# Altium footprint library TEST&JUMPER.PcbLib: 74 footprints (part 1 of 5)
Each footprint in its own frame and in the unit in brackets; x right, y up, seen from the top. Pads: shape width x height; smd on the part's side, far side on the other; paste and mask are expansions set on the pad; w line width, h text height; cw(c..) or ccw(c..) is an arc to the next point about the centre after c.
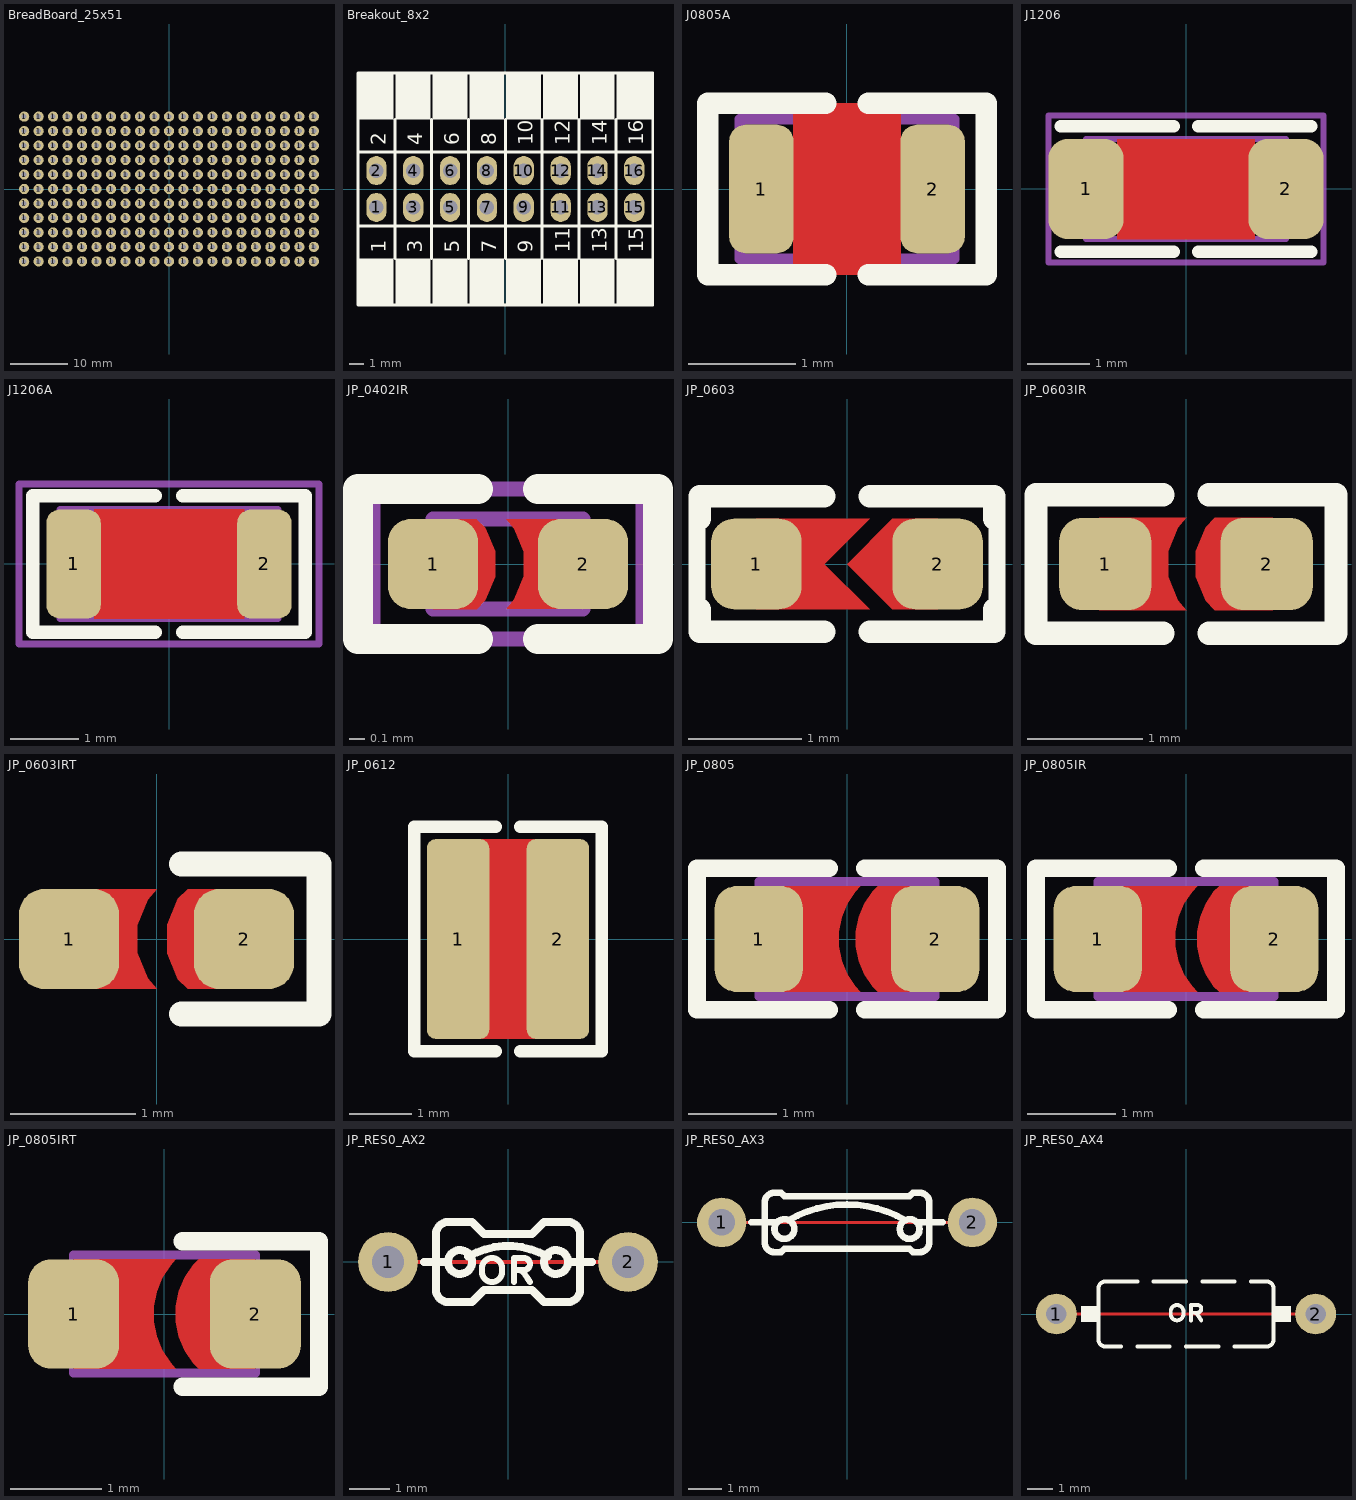
[diagram p0: the footprints below, top view; thin cyan lines are the x and y axes]

## BreadBoard_25x51 [mm] "Small 1\"x2\" breadboard section"
pads (231):
  round 1.8 hole 0.9: 1(-25.4,-12.7) 1(-25.4,-10.16) 1(-25.4,-7.62) 1(-25.4,-5.08) 1(-25.4,-2.54) 1(-25.4,0) 1(-25.4,2.54) 1(-25.4,5.08) 1(-25.4,7.62) 1(-25.4,10.16) 1(-25.4,12.7) 1(-22.86,-12.7) 1(-22.86,-10.16) 1(-22.86,-7.62) 1(-22.86,-5.08) 1(-22.86,-2.54) 1(-22.86,0) 1(-22.86,2.54) 1(-22.86,5.08) 1(-22.86,7.62) 1(-22.86,10.16) 1(-22.86,12.7) 1(-20.32,-12.7) 1(-20.32,-10.16) 1(-20.32,-7.62) 1(-20.32,-5.08) 1(-20.32,-2.54) 1(-20.32,0) 1(-20.32,2.54) 1(-20.32,5.08) 1(-20.32,7.62) 1(-20.32,10.16) 1(-20.32,12.7) 1(-17.78,-12.7) 1(-17.78,-10.16) 1(-17.78,-7.62) 1(-17.78,-5.08) 1(-17.78,-2.54) 1(-17.78,0) 1(-17.78,2.54) 1(-17.78,5.08) 1(-17.78,7.62) 1(-17.78,10.16) 1(-17.78,12.7) 1(-15.24,-12.7) 1(-15.24,-10.16) 1(-15.24,-7.62) 1(-15.24,-5.08) 1(-15.24,-2.54) 1(-15.24,0) 1(-15.24,2.54) 1(-15.24,5.08) 1(-15.24,7.62) 1(-15.24,10.16) 1(-15.24,12.7) 1(-12.7,-12.7) 1(-12.7,-10.16) 1(-12.7,-7.62) 1(-12.7,-5.08) 1(-12.7,-2.54) 1(-12.7,0) 1(-12.7,2.54) 1(-12.7,5.08) 1(-12.7,7.62) 1(-12.7,10.16) 1(-12.7,12.7) 1(-10.16,-12.7) 1(-10.16,-10.16) 1(-10.16,-7.62) 1(-10.16,-5.08) 1(-10.16,-2.54) 1(-10.16,0) 1(-10.16,2.54) 1(-10.16,5.08) 1(-10.16,7.62) 1(-10.16,10.16) 1(-10.16,12.7) 1(-7.62,-12.7) 1(-7.62,-10.16) 1(-7.62,-7.62) 1(-7.62,-5.08) 1(-7.62,-2.54) 1(-7.62,0) 1(-7.62,2.54) 1(-7.62,5.08) 1(-7.62,7.62) 1(-7.62,10.16) 1(-7.62,12.7) 1(-5.08,-12.7) 1(-5.08,-10.16) 1(-5.08,-7.62) 1(-5.08,-5.08) 1(-5.08,-2.54) 1(-5.08,0) 1(-5.08,2.54) 1(-5.08,5.08) 1(-5.08,7.62) 1(-5.08,10.16) 1(-5.08,12.7) 1(-2.54,-12.7) 1(-2.54,-10.16) 1(-2.54,-7.62) 1(-2.54,-5.08) 1(-2.54,-2.54) 1(-2.54,0) 1(-2.54,2.54) 1(-2.54,5.08) 1(-2.54,7.62) 1(-2.54,10.16) 1(-2.54,12.7) 1(0,-12.7) 1(0,-10.16) 1(0,-7.62) 1(0,-5.08) 1(0,-2.54) 1(0,0) 1(0,2.54) 1(0,5.08) 1(0,7.62) 1(0,10.16) 1(0,12.7) 1(2.54,-12.7) 1(2.54,-10.16) 1(2.54,-7.62) 1(2.54,-5.08) 1(2.54,-2.54) 1(2.54,0) 1(2.54,2.54) 1(2.54,5.08) 1(2.54,7.62) 1(2.54,10.16) 1(2.54,12.7) 1(5.08,-12.7) 1(5.08,-10.16) 1(5.08,-7.62) 1(5.08,-5.08) 1(5.08,-2.54) 1(5.08,0) 1(5.08,2.54) 1(5.08,5.08) 1(5.08,7.62) 1(5.08,10.16) 1(5.08,12.7) 1(7.62,-12.7) 1(7.62,-10.16) 1(7.62,-7.62) 1(7.62,-5.08) 1(7.62,-2.54) 1(7.62,0) 1(7.62,2.54) 1(7.62,5.08) 1(7.62,7.62) 1(7.62,10.16) 1(7.62,12.7) 1(10.16,-12.7) 1(10.16,-10.16) 1(10.16,-7.62) 1(10.16,-5.08) 1(10.16,-2.54) 1(10.16,0) 1(10.16,2.54) 1(10.16,5.08) 1(10.16,7.62) 1(10.16,10.16) 1(10.16,12.7) 1(12.7,-12.7) 1(12.7,-10.16) 1(12.7,-7.62) 1(12.7,-5.08) 1(12.7,-2.54) 1(12.7,0) 1(12.7,2.54) 1(12.7,5.08) 1(12.7,7.62) 1(12.7,10.16) 1(12.7,12.7) 1(15.24,-12.7) 1(15.24,-10.16) 1(15.24,-7.62) 1(15.24,-5.08) 1(15.24,-2.54) 1(15.24,0) 1(15.24,2.54) 1(15.24,5.08) 1(15.24,7.62) 1(15.24,10.16) 1(15.24,12.7) 1(17.78,-12.7) 1(17.78,-10.16) 1(17.78,-7.62) 1(17.78,-5.08) 1(17.78,-2.54) 1(17.78,0) 1(17.78,2.54) 1(17.78,5.08) 1(17.78,7.62) 1(17.78,10.16) 1(17.78,12.7) 1(20.32,-12.7) 1(20.32,-10.16) 1(20.32,-7.62) 1(20.32,-5.08) 1(20.32,-2.54) 1(20.32,0) 1(20.32,2.54) 1(20.32,5.08) 1(20.32,7.62) 1(20.32,10.16) 1(20.32,12.7) 1(22.86,-12.7) 1(22.86,-10.16) 1(22.86,-7.62) 1(22.86,-5.08) 1(22.86,-2.54) 1(22.86,0) 1(22.86,2.54) 1(22.86,5.08) 1(22.86,7.62) 1(22.86,10.16) 1(22.86,12.7) 1(25.4,-12.7) 1(25.4,-10.16) 1(25.4,-7.62) 1(25.4,-5.08) 1(25.4,-2.54) 1(25.4,0) 1(25.4,2.54) 1(25.4,5.08) 1(25.4,7.62) 1(25.4,10.16) 1(25.4,12.7)

## Breakout_8x2 [mm] "Small DAQ breakout for hookup to breadboard section"
pads (16):
  oval 1.4x2 hole 1: 1(-8.89,-1.27) 2(-8.89,1.27) 3(-6.35,-1.27) 4(-6.35,1.27) 5(-3.81,-1.27) 6(-3.81,1.27) 7(-1.27,-1.27) 8(-1.27,1.27) 9(1.27,-1.27) 10(1.27,1.27) 11(3.81,-1.27) 12(3.81,1.27) 13(6.35,-1.27) 14(6.35,1.27) 15(8.89,-1.27) 16(8.89,1.27)
Top Overlay:
  rectangle: -10.1,4.8 -7.7,8
  rectangle: -7.56,4.8 -5.16,8
  rectangle: -5.02,4.8 -2.62,8
  rectangle: -2.48,4.8 -0.08,8
  rectangle: 0.06,4.8 2.46,8
  rectangle: 2.6,4.8 5,8
  rectangle: 5.14,4.8 7.54,8
  rectangle: 7.68,4.8 10.08,8
  rectangle: 7.68,-8 10.08,-4.8
  rectangle: 5.14,-8 7.54,-4.8
  rectangle: 2.6,-8 5,-4.8
  rectangle: 0.06,-8 2.46,-4.8
  rectangle: -2.48,-8 -0.08,-4.8
  rectangle: -5.02,-8 -2.62,-4.8
  rectangle: -7.56,-8 -5.16,-4.8
  rectangle: -10.1,-8 -7.7,-4.8
  lines w0.2: -7.62,-4.8 -7.62,4.8 ; -5.08,-4.8 -5.08,4.8 ; -2.54,-4.8 -2.54,4.8 ; 0,-4.8 0,4.8 ; 2.54,-4.8 2.54,4.8 ; 5.08,-4.8 5.08,4.8 ; 7.62,-4.8 7.62,4.8 ; -10.16,-2.54 -10.16,-8 10.16,-8 10.16,-2.54 ; -10.16,-2.54 -10.16,2.54 ; -10.16,-2.54 10.16,-2.54 ; -10.16,2.54 -10.16,8 10.16,8 10.16,2.54 ; -10.16,2.54 10.16,2.54 ; 10.16,-2.54 10.16,2.54
  text "6" at -3.175,3 h1
  text "5" at -3.175,-4.4 h1
  text "1" at -8.255,-4.4 h1
  text "3" at -5.715,-4.4 h1
  text "7" at -0.635,-4.4 h1
  text "8" at -0.635,3 h1
  text "9" at 1.905,-4.4 h1
  text "10" at 1.905,3 h1
  text "16" at 9.525,3 h1
  text "14" at 6.985,3 h1
  text "12" at 4.445,3 h1
  text "15" at 9.525,-4.4 h1
  text "13" at 6.985,-4.4 h1
  text "11" at 4.445,-4.4 h1
  text "4" at -5.715,3 h1
  text "2" at -8.255,3 h1

## J0805A [mm] "CHIP RESISTOR 1/8 WATT ,2.0X1.3mm, 0805, for PCBA"
pads (2):
  rrect50% 0.6x1.2 smd mask+0.075: 1(-0.8,0) 2(0.8,0)
Top Layer:
  pour cut-out: -0.5,0.8 0.5,0.8 0.5,-0.8 -0.5,-0.8
Top Overlay:
  lines w0.2: -0.2,-0.8 -1.3,-0.8 -1.3,0.8 -0.2,0.8 ; 0.2,-0.8 1.3,-0.8 1.3,0.8 0.2,0.8
Mechanical 13:
  lines w0.1: -1,-0.65 1,-0.65 1,0.65 -1,0.65 -1,-0.65
3D body "User Library-RES_2013-0805.step": height 0.76, standoff 0, extent -1.15,-0.675 1.15,0.675

## J1206 [mm] "CHIP RESISTOR 1/4 WATT, Body 3.2x1.6mm,1206"
height 2
pads (2):
  rrect50% 1.2x1.6 smd mask+0.075: 1(-1.6,0) 2(1.6,0)
Top Layer:
  pour cut-out: -1.1,0.8 -1.1,-0.8 1.1,-0.8 1.1,0.8
Top Overlay:
  lines w0.2: -2,-1 -0.2,-1 ; -2,1 -0.2,1 ; 0.2,-1 2,-1 ; 0.2,1 2,1
Mechanical 13:
  lines w0.1: -1.6,-0.8 -1.6,0.8 1.6,0.8 1.6,-0.8 -1.6,-0.8
Mechanical 15:
  lines w0.1: -0.5,0 0.5,0 ; 0,-0.5 0,0.5 ; -2.2,-1.175 -2.2,1.175 2.2,1.175 2.2,-1.175 -2.2,-1.175
3D body "User Library-RES_3216-1206.step": height 0.85, standoff 0, extent -1.675,-0.865 1.675,0.865

## J1206A [mm] "CHIP RESISTOR 1/4 WATT, Body 3.2x1.6mm,1206, for PCBA"
height 2
pads (2):
  rrect50% 0.8x1.6 smd mask+0.075: 1(-1.4,0) 2(1.4,0)
Top Layer:
  pour cut-out: -1.1,0.8 -1.1,-0.8 1.1,-0.8 1.1,0.8
Top Overlay:
  lines w0.2: -0.2,-1 -2,-1 -2,1 -0.2,1 ; 0.2,-1 2,-1 2,1 0.2,1
Mechanical 13:
  lines w0.1: -1.6,-0.8 1.6,-0.8 1.6,0.8 -1.6,0.8 -1.6,-0.8
Mechanical 15:
  lines w0.1: -0.5,0 0.5,0 ; 0,-0.5 0,0.5 ; -2.2,-1.175 2.2,-1.175 2.2,1.175 -2.2,1.175 -2.2,-1.175
3D body "User Library-RES_3216-1206.step": height 0.85, standoff 0, extent -1.675,-0.865 1.675,0.865

## JP_0402IR [mm] "JUMPER 0402 for Iran"
height 0.4
pads (2):
  rrect50% 0.6x0.6 smd paste-0.05 mask+0.075: 1(-0.5,0) 2(0.5,0)
Top Layer:
  region: -0.21,-0.3 -0.15,-0.24 -0.086,-0.084 -0.086,0.084 -0.15,0.24 -0.21,0.3 -0.5,0.3 -0.5,-0.3
  region: -0.01,0.3 0.043,0.236 0.106,0.083 0.106,-0.083 0.043,-0.236 -0.01,-0.3 0.5,-0.3 0.5,0.3
Top Overlay:
  lines w0.2: -0.2,-0.5 -1,-0.5 ; -0.2,0.5 -1,0.5 -1,-0.5 ; 0.2,-0.5 1,-0.5 ; 0.2,0.5 1,0.5 1,-0.5 ; -1,-0.5 -1,-0.5 ; 1,-0.5 1,-0.5
Top Solder:
  rectangle: -0.5,-0.3 0.5,0.3
Mechanical 13:
  lines w0.1: -0.5,-0.3 -0.5,0.3 0.5,0.3 0.5,-0.3 -0.5,-0.3
Mechanical 15:
  lines w0.1: -0.9,-0.5 -0.9,0.5 0.9,0.5 0.9,-0.5 -0.9,-0.5
3D body "User Library-RES_1005-0402.step": height 0.41, standoff 0, extent -0.575,-0.275 0.575,0.275

## JP_0603 [mm] "CHIP Resistor 1/10 WATT, 1.6x0.8mm, 0603, 1608"
height 0.6
pads (2):
  rrect50% 0.8x0.8 smd paste-0.05 mask+0.05: 1(-0.8,0) 2(0.8,0)
Top Layer:
  region: 0.4,0.4 0,0 0.4,-0.4 0.8,-0.4 0.8,0.4
  region: -0.8,0.4 0.2,0.4 -0.2,0 0.2,-0.4 -0.8,-0.4
Top Overlay:
  lines w0.15: -1.325,-0.4 -1.325,0.4 ; 1.325,-0.4 1.325,0.4
  lines w0.2: -1.3,-0.4 -1.3,-0.6 -0.2,-0.6 ; -1.3,0.4 -1.3,0.6 -0.2,0.6 ; 0.2,-0.6 1.3,-0.6 1.3,-0.4 ; 0.2,0.6 1.3,0.6 1.3,0.4
Top Solder:
  region: -0.9,-0.5 -0.9,0.5 0.9,0.5 0.9,-0.5
3D body "User Library-RES_1609-0603.step": height 0.56, standoff 0, extent -0.85,-0.4 0.85,0.4

## JP_0603IR [mm] "JUMPER 0603 for Iran"
height 0.6
pads (2):
  rrect50% 0.8x0.8 smd paste-0.05 mask+0.05: 1(-0.7,0) 2(0.7,0)
Top Layer:
  region: -0.75,0.4 0,0.4 -0.07,0.314 -0.155,0.11 -0.155,-0.11 -0.07,-0.314 0,-0.4 -0.75,-0.4
  region: 0.25,0.4 0.17,0.32 0.084,0.113 0.084,-0.113 0.17,-0.32 0.25,-0.4 0.75,-0.4 0.75,0.4
Top Overlay:
  lines w0.2: -0.2,-0.6 -1.3,-0.6 -1.3,0.6 -0.2,0.6 ; 0.2,-0.6 1.3,-0.6 1.3,0.6 0.2,0.6
Top Solder:
  rectangle: -0.8,-0.4 0.8,0.4
3D body "User Library-RES_1609-0603.step": height 0.56, standoff 0, extent -0.85,-0.4 0.85,0.4

## JP_0603IRT [mm] "JUMPER 0603 for triple jumper placement"
height 0.6
pads (2):
  rrect50% 0.8x0.8 smd paste-0.05 mask+0.05: 1(-0.7,0) 2(0.7,0)
Top Layer:
  region: -0.75,0.4 0,0.4 -0.07,0.314 -0.155,0.11 -0.155,-0.11 -0.07,-0.314 0,-0.4 -0.75,-0.4
  region: 0.25,0.4 0.17,0.32 0.084,0.113 0.084,-0.113 0.17,-0.32 0.25,-0.4 0.75,-0.4 0.75,0.4
Top Overlay:
  lines w0.2: 0.2,-0.6 1.3,-0.6 1.3,0.6 0.2,0.6
Top Solder:
  rectangle: -0.8,-0.4 0.8,0.4
3D body "User Library-RES_1609-0603.step": height 0.56, standoff 0, extent -0.85,-0.4 0.85,0.4

## JP_0612 [mm] "CHIP RESISTOR 1/4 WATT, Body 1.6x3.2mm, 1632, 0612"
height 2
pads (2):
  rrect30% 1x3.2 smd paste-0.5 mask+0.075: 1(-0.8,0) 2(0.8,0)
Top Layer:
  region: 0.075,0 0.275,1.6 0.8,1.6 0.8,-1.6 0.275,-1.6
  region: -0.075,0 0.125,1.6 -0.8,1.6 -0.8,-1.6 0.125,-1.6
  pour cut-out: -0.8,1.6 -0.8,-1.6 0.8,-1.6 0.8,1.6
Top Overlay:
  lines w0.2: -0.2,-1.8 -1.5,-1.8 -1.5,1.8 -0.2,1.8 ; 0.2,-1.8 1.5,-1.8 1.5,1.8 0.2,1.8
Top Paste:
  region: 0.4,-0.2 0.4,-1.1 0.4,-1.18 0.461,-1.327 0.573,-1.439 0.72,-1.5 0.8,-1.5 1.1,-1.5 1.12,-1.5 1.157,-1.485 1.185,-1.457 1.2,-1.42 1.2,-1.4 1.2,-0.2
  region: 0.4,0.2 0.4,1.1 0.4,1.18 0.461,1.327 0.573,1.439 0.72,1.5 0.8,1.5 1.1,1.5 1.12,1.5 1.157,1.485 1.185,1.457 1.2,1.42 1.2,1.4 1.2,0.2
  region: -0.4,-0.2 -0.4,-1.1 -0.4,-1.18 -0.461,-1.327 -0.573,-1.439 -0.72,-1.5 -0.8,-1.5 -1.1,-1.5 -1.12,-1.5 -1.157,-1.485 -1.185,-1.457 -1.2,-1.42 -1.2,-1.4 -1.2,-0.2
  region: -0.4,0.2 -0.4,1.1 -0.4,1.18 -0.461,1.327 -0.573,1.439 -0.72,1.5 -0.8,1.5 -1.1,1.5 -1.12,1.5 -1.157,1.485 -1.185,1.457 -1.2,1.42 -1.2,1.4 -1.2,0.2
Mechanical 15:
  lines w0.1: -0.5,0 0.5,0 ; 0,-0.5 0,0.5
3D body "User Library-wk732b.step": height 0.61, standoff 0, extent -0.8,-1.6 0.8,1.6

## JP_0805 [mm] "CHIP RESISTOR 1/8 WATT , 2.0X1.3mm, 0805, 2012"
pads (2):
  rrect50% 1x1.2 smd paste-0.1 mask+0.075: 1(-1,0) 2(1,0)
Top Layer:
  region: 0.35,0.6 0.291,0.541 0.198,0.402 0.134,0.248 0.101,0.084 0.101,-0.084 0.134,-0.248 0.198,-0.402 0.291,-0.541 0.35,-0.6 1,-0.6 1,0.6
  region: 0.15,-0.6 0.094,-0.538 0.002,-0.4 -0.062,-0.246 -0.094,-0.083 -0.094,0.083 -0.062,0.246 0.002,0.4 0.094,0.538 0.15,0.6 -1,0.6 -1,-0.6
Top Overlay:
  lines w0.2: -0.2,-0.8 -1.7,-0.8 -1.7,0.8 -0.2,0.8 ; 0.2,-0.8 1.7,-0.8 1.7,0.8 0.2,0.8
Top Solder:
  region: 1,0.675 1,-0.675 -1,-0.675 -1,0.675
Mechanical 13:
  lines w0.1: -1,-0.65 -1,0.65 1,0.65 1,-0.65 -1,-0.65
3D body "User Library-RES_2013-0805.step": height 0.76, standoff 0, extent -1.15,-0.675 1.15,0.675

## JP_0805IR [mm] "JUMPER 0805 for Iran"
pads (2):
  rrect50% 1x1.2 smd paste-0.1 mask+0.075: 1(-1,0) 2(1,0)
Top Layer:
  region: 0.375,0.6 0.316,0.541 0.223,0.402 0.159,0.248 0.126,0.084 0.126,-0.084 0.159,-0.248 0.223,-0.402 0.316,-0.541 0.375,-0.6 1,-0.6 1,0.6
  region: 0.125,-0.6 0.069,-0.538 -0.023,-0.4 -0.087,-0.246 -0.119,-0.083 -0.119,0.083 -0.087,0.246 -0.023,0.4 0.069,0.538 0.125,0.6 -1,0.6 -1,-0.6
Top Overlay:
  lines w0.2: -0.2,-0.8 -1.7,-0.8 -1.7,0.8 -0.2,0.8 ; 0.2,-0.8 1.7,-0.8 1.7,0.8 0.2,0.8
Top Solder:
  region: 1,0.675 1,-0.675 -1,-0.675 -1,0.675
Mechanical 13:
  lines w0.1: -1,-0.65 -1,0.65 1,0.65 1,-0.65 -1,-0.65
3D body "User Library-RES_2013-0805.step": height 0.76, standoff 0, extent -1.15,-0.675 1.15,0.675

## JP_0805IRT [mm] "JUMPER 0805 for Iran"
pads (2):
  rrect50% 1x1.2 smd paste-0.1 mask+0.075: 1(-1,0) 2(1,0)
Top Layer:
  region: 0.375,0.6 0.316,0.541 0.223,0.402 0.159,0.248 0.126,0.084 0.126,-0.084 0.159,-0.248 0.223,-0.402 0.316,-0.541 0.375,-0.6 1,-0.6 1,0.6
  region: 0.125,-0.6 0.069,-0.538 -0.023,-0.4 -0.087,-0.246 -0.119,-0.083 -0.119,0.083 -0.087,0.246 -0.023,0.4 0.069,0.538 0.125,0.6 -1,0.6 -1,-0.6
Top Overlay:
  lines w0.2: 0.2,-0.8 1.7,-0.8 1.7,0.8 0.2,0.8
Top Solder:
  region: 1,0.675 1,-0.675 -1,-0.675 -1,0.675
Mechanical 13:
  lines w0.1: -1,-0.65 -1,0.65 1,0.65 1,-0.65 -1,-0.65
3D body "User Library-RES_2013-0805.step": height 0.76, standoff 0, extent -1.15,-0.675 1.15,0.675

## JP_RES0_AX2 [mm] "JUMPER, RESISTOR 0 Ohm 1/8Watt, Axial 0.24Inch"
pads (2):
  round 1.5 hole 0.8: 1(-3,0) 2(3,0)
Top Layer:
  lines w0.1: -3,0 3,0
Top Overlay:
  circle w0.2: c-1.2,0 r0.3
  circle w0.2: c1.2,0 r0.3
  lines w0.15: 0.15,-0.5 0.15,0.1 0.4,0.1 cw(c0.4,-0.05) 0.55,-0.05 cw(c0.4,-0.05) 0.4,-0.2 0.15,-0.2 ; 0.25,-0.2 cw(c0.25,-0.4) 0.391,-0.259 0.55,-0.5 ; -0.65,-0.25 ccw(c-0.4,-0.25) -0.4,-0.5 ccw(c-0.4,-0.25) -0.15,-0.25 -0.15,-0.15 ccw(c-0.4,-0.15) -0.4,0.1 ccw(c-0.4,-0.15) -0.65,-0.15 -0.65,-0.25
  lines w0.2: -2.1,0 -1.5,0 ; -1,0.132 cw(c0,-1.6) 1,0.132 ; 1.5,0 2.1,0 ; -1.8,-0.7 ccw(c-1.5,-0.7) -1.5,-1 -0.9,-1 -0.6,-0.7 0.6,-0.7 0.9,-1 1.5,-1 ccw(c1.5,-0.7) 1.8,-0.7 1.8,0.7 ccw(c1.5,0.7) 1.5,1 0.9,1 0.6,0.7 -0.6,0.7 -0.9,1 -1.5,1 ccw(c-1.5,0.7) -1.8,0.7 -1.8,-0.7
3D body "User Library-Res_1-8w_1_0.step": height 1.9, standoff -2, extent -3.2,-0.9 3.2,0.9

## JP_RES0_AX3 [mm] "JUMPER, RESISTOR 0 Ohm 1/8Watt, Axial0.3Inch"
pads (2):
  round 1.5 hole 0.8: 1(-3.8,0) 2(3.8,0)
Top Layer:
  lines w0.1: -3.8,0 3.8,0
Top Overlay:
  circle w0.2: c-1.9,-0.2 r0.3
  circle w0.2: c1.9,-0.2 r0.3
  lines w0.2: -2.9,0 -2.1,0 ; -1.776,0.06 cw(c0,-2.956) 1.776,0.06 ; 2.1,0 2.9,0 ; -2.5,-0.6 ccw(c-2.2,-0.6) -2.2,-0.9 -2,-0.9 -1.9,-0.8 1.9,-0.8 2,-0.9 2.2,-0.9 ccw(c2.2,-0.6) 2.5,-0.6 2.5,0.6 ccw(c2.2,0.6) 2.2,0.9 2,0.9 1.9,0.8 -1.9,0.8 -2,0.9 -2.2,0.9 ccw(c-2.2,0.6) -2.5,0.6 -2.5,-0.6
3D body "Resistor Zero.STEP": height 2.5, standoff -2.3, extent -4.21,-1.2 4.21,1.2

## JP_RES0_AX4 [mil] "0 Ohm Jumper Resistor"
pads (2):
  round 63 hole 31.5: 1(-200,0) 2(200,0)
Top Layer:
  lines w3.94: -200,0 200,0
Top Overlay:
  rectangle: -162,-12 -135,12
  rectangle: 135,-12 162,12
  lines w5.91: 7.87,-9.84 7.87,13.78 17.72,13.78 cw(c17.72,7.87) 23.62,7.87 cw(c17.72,7.87) 17.72,1.97 7.87,1.97 ; 11.81,1.97 cw(c11.81,-5.91) 17.38,-0.34 23.62,-9.84 ; -23.62,0 ccw(c-13.78,0) -13.78,-9.84 ccw(c-13.78,0) -3.94,0 -3.94,3.94 ccw(c-13.78,3.94) -13.78,13.78 ccw(c-13.78,3.94) -23.62,3.94 -23.62,0
  lines w6: -100,-50 -125,-50 cw(c-125,-40) -135,-40 -135,40 cw(c-125,40) -125,50 -75,50 ; -75,-50 -25,-50 ; -50,50 0,50 ; 0,-50 50,-50 ; 25,50 75,50 ; 75,-50 125,-50 ccw(c125,-40) 135,-40 135,40 ccw(c125,40) 125,50 100,50
3D body "SW3dPS-AXIAL_RESISTOR(0.25W).STEP": height 102.36, standoff -59.06, extent -215.74,-47.24 215.75,47.25